# Altium schematic symbol library 5499913-1.SchLib: 1 symbol
Pins are listed as number, name and electrical type; pins without a type are passive.

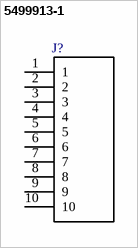
[diagram p0: symbol 5499913-1]

## 5499913-1
designator J?  (value not drawn)
HEADER; UNIVERSAL EJECTION PIN; AMP-LATCH; 10 POS; 2.54 X 2.54; PCB; RIGHT ANGLE; Centerline_Pitch: 2.54 mm[.1 in]; MF: TE Connectivity; Number_of_Positions: 10; Product_Type: Connector; Price: None; SnapEDA_Link: https://www.snapeda.com/parts/5499913-1/TE%20Connectivity%20AMP%20Connectors/view-part/52128/?ref=snap; EU_RoHS_Compliance: Compliant; MP: 5499913-1; TE_purchase_URL: https://www.te.com/usa-en/product-5499913-1.html?te_bu=Cor&te_type=disp&te_campaign=seda_glo_cor-seda-global-disp-prtnr-fy19-seda-model-bom-cta_sma-317_1&elqCampaignId=32493; Availability: Unavailable; Package: None; Value: *
footprint *TE_5499913-1
pins: 1, 2, 3, 4, 5, 6, 7, 8, 9, 10